# Altium schematic symbol library Components - 14.02.24 - 09.37.SchLib: 1 symbol
Pins are listed as number, name and electrical type; pins without a type are passive.

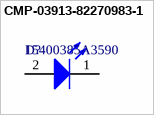
[diagram p0: symbol CMP-03913-82270983-1]

## CMP-03913-82270983-1
designator D?, comment 15400385A3590
15400385A3590 WL-TIRW THT Infrared Round Waterclear; NexarPartId: 82270983; Forward Voltage: 1.5V; Viewing Angle: 35°; Wavelength: 850nm; Max Reverse Voltage (DC): 5V; Forward Current: 1A; Packaging: Bulk; RoHS: Non-Compliant; Peak Wavelength: 850nm
footprint WL-TIRW_D3.9H5.3 (THT Infrared Round Waterclear, body diameter 3.9mm)
pins: 1 K, 2 A